# Altium schematic symbol library LM20.SchLib: 1 symbol
Pins are listed as number, name and electrical type; pins without a type are passive.

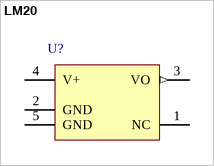
[diagram p0: symbol LM20]

## LM20
designator U?
pins: 1 NC, 2 GND (power), 3 VO (out), 4 V+ (power), 5 GND (power)